# Altium footprint library TMUX1119DBVR.PcbLib: 3 footprints
Each footprint in its own frame and in the unit in brackets; x right, y up, seen from the top. Pads: shape width x height; smd on the part's side, far side on the other; paste and mask are expansions set on the pad; w line width, h text height; cw(c..) or ccw(c..) is an arc to the next point about the centre after c.
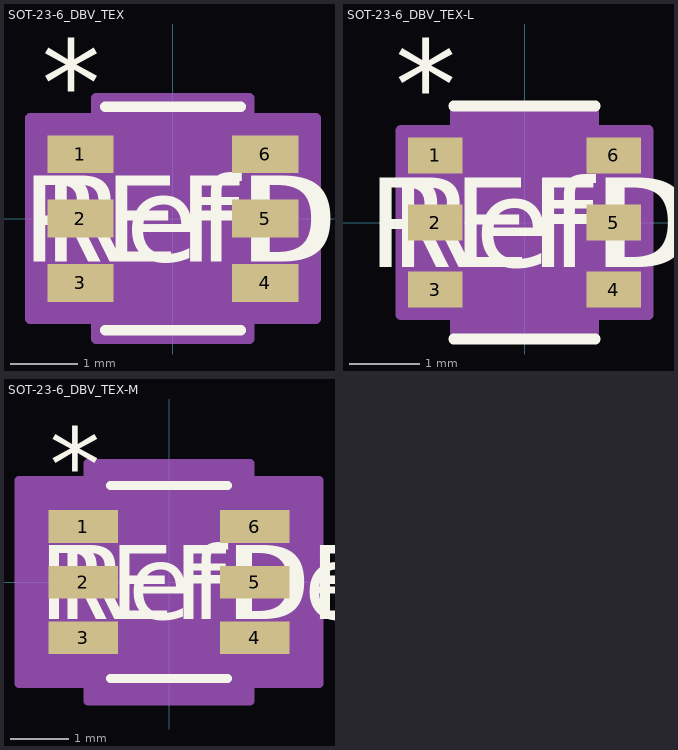
[diagram p0: the footprints below, top view; thin cyan lines are the x and y axes]

## SOT-23-6_DBV_TEX [mil]
pads (6):
  rect 38.5x22 smd paste+0 mask+0: 1(-53.75,37.4) 2(-53.75,0) 3(-53.75,-37.4) 4(53.75,-37.4) 5(53.75,0) 6(53.75,37.4)
Top Overlay:
  lines w6: -39.5,-65 39.5,-65 ; -39.5,65 39.5,65
  text "REFDES" at -87.5,-25 h50
  text "*" at -76.25,54.4 h50
  text "RefDes" at -75,-25 h50
Mechanical 13:
  lines w0: -12,60 ccw(c0,60) 12,60
  lines w1: -59,-47.4 -59,-27.4 -34.5,-27.4 -34.5,-47.4 -59,-47.4 ; -59,-10 -59,10 -34.5,10 -34.5,-10 -59,-10 ; -59,27.4 -59,47.4 -34.5,47.4 -34.5,27.4 -59,27.4 ; -34.5,-60 34.5,-60 34.5,60 -34.5,60 -34.5,-60 ; 34.5,-47.4 34.5,-27.4 59,-27.4 59,-47.4 34.5,-47.4 ; 34.5,-10 34.5,10 59,10 59,-10 34.5,-10 ; 34.5,27.4 34.5,47.4 59,47.4 59,27.4 34.5,27.4
  text "*" at -32,7 h50
  text "RefDes2" at -87.5,-25 h50
Mechanical 15:
  region: -44.5,-58.4 -83,-58.4 -83,58.4 -44.5,58.4 -44.5,70 44.5,70 44.5,58.4 83,58.4 83,-58.4 44.5,-58.4 44.5,-70 -44.5,-70
  lines w6: -83,-58.4 -83,58.4 -44.5,58.4 -44.5,70 44.5,70 44.5,58.4 83,58.4 83,-58.4 44.5,-58.4 44.5,-70 -44.5,-70 -44.5,-58.4 -83,-58.4
3D body "SOT-23-6_DBV_TEX.step": height 57.09, standoff 0, extent -59.02,-60 59.02,60

## SOT-23-6_DBV_TEX-L [mil]
pads (6):
  rect 30.5x20 smd paste+0 mask+0: 1(-49.75,37.4) 2(-49.75,0) 3(-49.75,-37.4) 4(49.75,-37.4) 5(49.75,0) 6(49.75,37.4)
Top Overlay:
  lines w6: -39.5,-65 39.5,-65 ; -39.5,65 39.5,65
  text "REFDES" at -87.5,-25 h50
  text "*" at -72.25,52.4 h50
  text "RefDes" at -75,-25 h50
Mechanical 13:
  lines w0: -12,60 ccw(c0,60) 12,60
  lines w1: -59,-47.4 -59,-27.4 -34.5,-27.4 -34.5,-47.4 -59,-47.4 ; -59,-10 -59,10 -34.5,10 -34.5,-10 -59,-10 ; -59,27.4 -59,47.4 -34.5,47.4 -34.5,27.4 -59,27.4 ; -34.5,-60 34.5,-60 34.5,60 -34.5,60 -34.5,-60 ; 34.5,-47.4 34.5,-27.4 59,-27.4 59,-47.4 34.5,-47.4 ; 34.5,-10 34.5,10 59,10 59,-10 34.5,-10 ; 34.5,27.4 34.5,47.4 59,47.4 59,27.4 34.5,27.4
  text "*" at -32,7 h50
  text "RefDes2" at -87.5,-25 h50
Mechanical 15:
  region: -38.5,-51.4 -69,-51.4 -69,51.4 -38.5,51.4 -38.5,64 38.5,64 38.5,51.4 69,51.4 69,-51.4 38.5,-51.4 38.5,-64 -38.5,-64
  lines w6: -69,-51.4 -69,51.4 -38.5,51.4 -38.5,64 38.5,64 38.5,51.4 69,51.4 69,-51.4 38.5,-51.4 38.5,-64 -38.5,-64 -38.5,-51.4 -69,-51.4
3D body "SOT-23-6_DBV_TEX.step": height 57.09, standoff 0, extent -59.02,-60 59.02,60

## SOT-23-6_DBV_TEX-M [mil]
pads (6):
  rect 46.5x22 smd paste+0 mask+0: 1(-57.75,37.4) 2(-57.75,0) 3(-57.75,-37.4) 4(57.75,-37.4) 5(57.75,0) 6(57.75,37.4)
Top Overlay:
  lines w6: -39.5,-65 39.5,-65 ; -39.5,65 39.5,65
  text "REFDES" at -87.5,-25 h50
  text "*" at -80.25,54.4 h50
  text "RefDes" at -75,-25 h50
Mechanical 13:
  lines w0: -12,60 ccw(c0,60) 12,60
  lines w1: -59,-47.4 -59,-27.4 -34.5,-27.4 -34.5,-47.4 -59,-47.4 ; -59,-10 -59,10 -34.5,10 -34.5,-10 -59,-10 ; -59,27.4 -59,47.4 -34.5,47.4 -34.5,27.4 -59,27.4 ; -34.5,-60 34.5,-60 34.5,60 -34.5,60 -34.5,-60 ; 34.5,-47.4 34.5,-27.4 59,-27.4 59,-47.4 34.5,-47.4 ; 34.5,-10 34.5,10 59,10 59,-10 34.5,-10 ; 34.5,27.4 34.5,47.4 59,47.4 59,27.4 34.5,27.4
  text "*" at -32,7 h50
  text "RefDes2" at -87.5,-25 h50
Mechanical 15:
  region: -54.5,-68.4 -101,-68.4 -101,68.4 -54.5,68.4 -54.5,80 54.5,80 54.5,68.4 101,68.4 101,-68.4 54.5,-68.4 54.5,-80 -54.5,-80
  lines w6: -101,-68.4 -101,68.4 -54.5,68.4 -54.5,80 54.5,80 54.5,68.4 101,68.4 101,-68.4 54.5,-68.4 54.5,-80 -54.5,-80 -54.5,-68.4 -101,-68.4
3D body "SOT-23-6_DBV_TEX.step": height 57.09, standoff 0, extent -59.02,-60 59.02,60